# EAGLE library part MAX890L (library power)
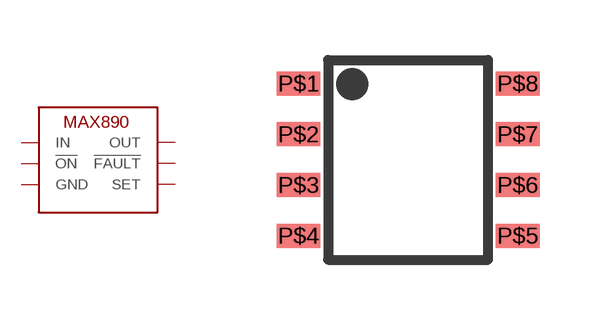
[diagram p2: symbol with the pads of SO8; footprint SO8]

Designator prefix -

## MAX890LESA+T  [SO8]
P$1  IN  pwr
P$2  IN  pwr
P$3  !ON  pwr
P$4  GND  pwr
P$5  SET  pwr
P$6  OUT  pwr
P$7  OUT  pwr
P$8  !FAULT  pwr

## Footprint SO8 (pad centres in mm)
smd 1.1 x 0.6: P$1 -2.74,3.41; P$2 -2.74,2.14; P$3 -2.74,0.87; P$4 -2.74,-0.4; P$5 2.74,-0.4; P$6 2.74,0.87; P$7 2.74,2.14; P$8 2.74,3.41